# EAGLE library part PRO-MINI (library dbyrne)
Arduion Pro Mini Clone V1.0 www.betemcu.cu
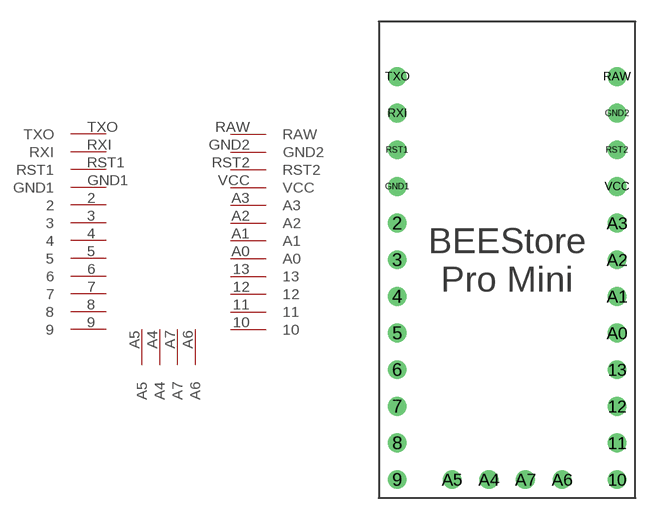
[diagram p0: symbol with the pads of PRO-MINI; footprint PRO-MINI]

Designator prefix -

## PRO-MINI  [PRO-MINI]
2  2
3  3
4  4
5  5
6  6
7  7
8  8
9  9
10  10
11  11
12  12
13  13
A0  A0
A1  A1
A2  A2
A3  A3
A4  A4
A5  A5
A6  A6
A7  A7
GND1  GND1
GND2  GND2
RAW  RAW
RST1  RST1
RST2  RST2
RXI  RXI
TXO  TXO
VCC  VCC

## Footprint PRO-MINI (pad centres in mm)
Arduino Pro Mini Clone
drill 0.8: 2 -6.35,16.51; 3 -6.35,13.97; 4 -6.35,11.43; 5 -6.35,8.89; 6 -6.35,6.35; 7 -6.35,3.81; 8 -6.35,1.27; 9 -6.35,-1.27; 10 8.89,-1.27; 11 8.89,1.27; 12 8.89,3.81; 13 8.89,6.35; A0 8.89,8.89; A1 8.89,11.43; A2 8.89,13.97; A3 8.89,16.51; A4 0,-1.27; A5 -2.54,-1.27; A6 5.08,-1.27; A7 2.54,-1.27; GND1 -6.35,19.05; GND2 8.89,24.13; RAW 8.89,26.67; RST1 -6.35,21.59; RST2 8.89,21.59; RXI -6.35,24.13; TXO -6.35,26.67; VCC 8.89,19.05